# EAGLE library part TI-SN74AUP2G79 (library lz-shield)
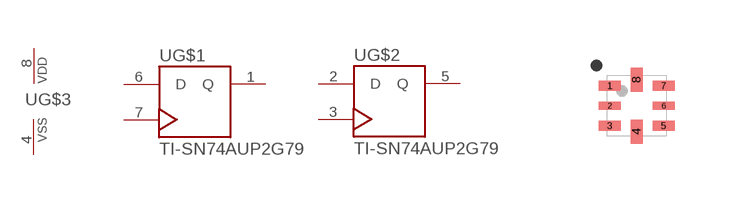
[diagram p1: symbol with the pads of UQFN8; footprint UQFN8]

Designator prefix -; gates G$1=DFF G$2=DFF G$3=PWRN

## TI-SN74AUP2G79  [UQFN8]
1  G$1:Q  out
2  G$2:D  in
3  G$2:CK  in
4  G$3:VSS  pwr
5  G$2:Q  out
6  G$1:D  in
7  G$1:CK  in
8  G$3:VDD  pwr

## Footprint UQFN8 (pad centres in mm)
smd 0.55 x 0.25: 1 -0.675,0.5; 3 -0.675,-0.5; 5 0.675,-0.5; 7 0.675,0.5
smd 0.55 x 0.2: 2 -0.675,0; 6 0.675,0
smd 0.3 x 0.6: 4 0,-0.65; 8 0,0.65